# Altium schematic symbol library memory_flash_parallel.SchLib: 8 symbols
Pins are listed as number, name and electrical type; pins without a type are passive.

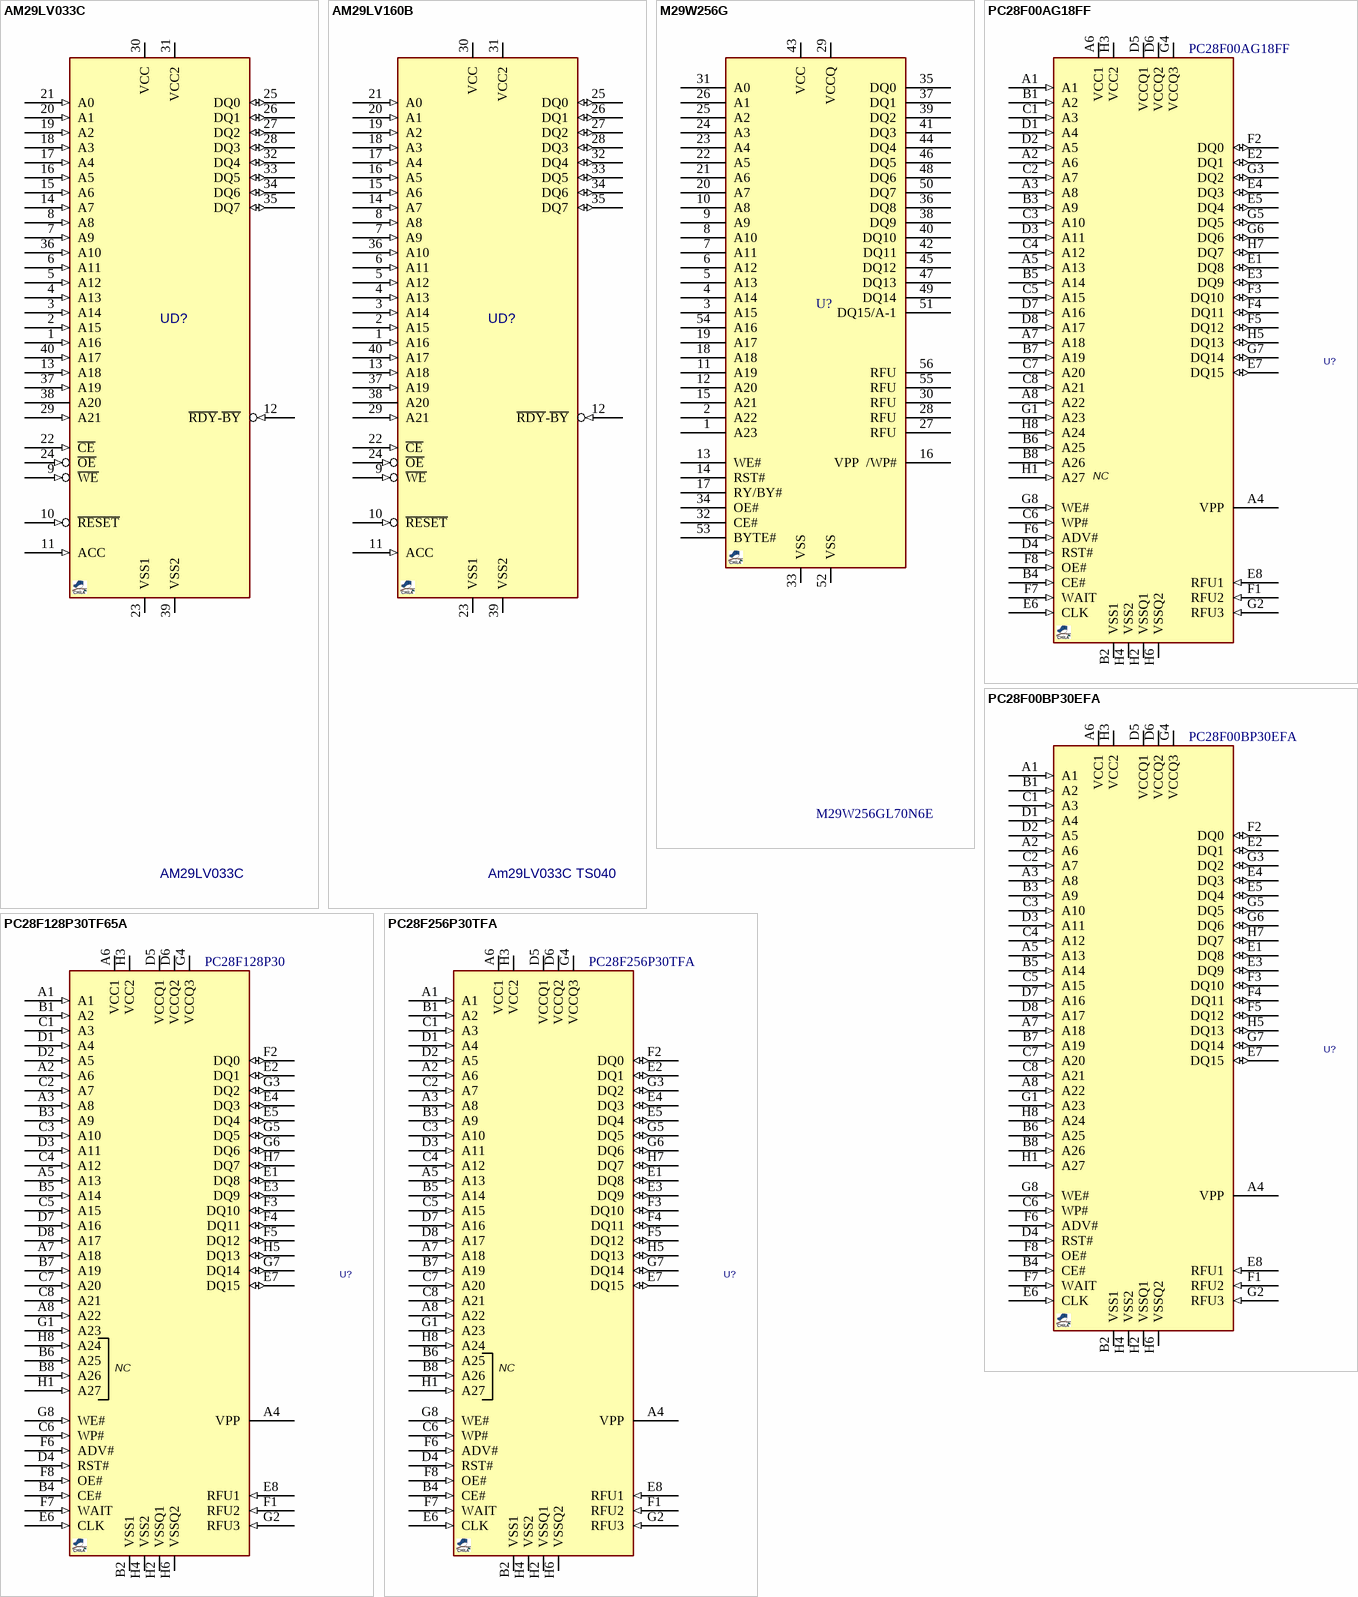
[diagram p0: symbols AM29LV033C to PC28F256P30TFA]

## AM29LV033C
designator UD?
FLASH MEMORY, 32Mb (4M x 8-Bit) CMOS 3.0 Volt-only Boot Sector; MANF: AMD; DESC: DESCRIPTION; ASSEMBLY: ASSEMBLY; PARAM: 32Mb (4M x 8-Bit); PRICE: PRICE; MANF_P#: AM29LV033C; VALUE: AM29LV033C
footprint SOG50_40 (TS040, TSOP40, TSSOP, 40-Leads, Body 10.00x18.40mm, Pitch 0.50mm)
pins: 1 A16 (in), 2 A15 (in), 3 A14 (in), 4 A13 (in), 5 A12 (in), 6 A11 (in), 7 A9 (in), 8 A8 (in), 9 ~{WE} (in), 10 ~{RESET} (in), 11 ACC (in), 12 ~{RDY}-~{BY} (in), 13 A18 (in), 14 A7 (in), 15 A6 (in), 16 A5 (in), 17 A4 (in), 18 A3 (in), 19 A2 (in), 20 A1 (in), 21 A0 (in), 22 ~{CE} (in), 23 VSS1, 24 ~{OE} (in), 25 DQ0 (io), 26 DQ1 (io), 27 DQ2 (io), 28 DQ3 (io), 29 A21 (in), 30 VCC, 31 VCC2, 32 DQ4 (io), 33 DQ5 (io), 34 DQ6 (io), 35 DQ7 (io), 36 A10 (in), 37 A19 (in), 38 A20, 39 VSS2, 40 A17 (in)

## AM29LV160B
designator UD?, comment Am29LV033C TS040
FLASH MEMORY, 16Mb (2M x8-Bit/ 1M x16-Bit), CMOS 3.0 Volt-only Boot Sector; MANF: AMD; DESC: DESCRIPTION; MANF_P#: AM29LV160B; ASSEMBLY: ASSEMBLY; PARAM: 16Mb (2M x8-Bit/ 1M x16-Bit); PRICE: PRICE; VALUE: Am29LV033C TS040
footprint SOG50_40 (TS040, TSOP40, TSSOP, 40-Leads, Body 10.00x18.40mm, Pitch 0.50mm)
pins: 1 A16 (in), 2 A15 (in), 3 A14 (in), 4 A13 (in), 5 A12 (in), 6 A11 (in), 7 A9 (in), 8 A8 (in), 9 ~{WE} (in), 10 ~{RESET} (in), 11 ACC (in), 12 ~{RDY}-~{BY} (in), 13 A18 (in), 14 A7 (in), 15 A6 (in), 16 A5 (in), 17 A4 (in), 18 A3 (in), 19 A2 (in), 20 A1 (in), 21 A0 (in), 22 ~{CE} (in), 23 VSS1, 24 ~{OE} (in), 25 DQ0 (io), 26 DQ1 (io), 27 DQ2 (io), 28 DQ3 (io), 29 A21 (in), 30 VCC, 31 VCC2, 32 DQ4 (io), 33 DQ5 (io), 34 DQ6 (io), 35 DQ7 (io), 36 A10 (in), 37 A19 (in), 38 A20, 39 VSS2, 40 A17 (in)

## M29W256G
designator U?, comment M29W256GL70N6E
FLASH MEMORY, NOR, 256Mb (32Mb x8 or 16Mb x16), 3V; MANF: MICRON; Value: M29W256G; MANF_P#: M29W256G; PARAM: 256Mb (32Mb x8 or 16Mb x16)
signal-integrity model Connector
footprint SOG50_56 (DGG TSSOP (TI), MO-153-EE (JEDEC), 56Lead, pitch: 0.5mm, 14x6.1x1.2mm)
pins: 1 A23, 2 A22, 3 A15, 4 A14, 5 A13, 6 A12, 7 A11, 8 A10, 9 A9, 10 A8, 11 A19, 12 A20, 13 WE#, 14 RST#, 15 A21, 16 VPP  /WP#, 17 RY/BY#, 18 A18, 19 A17, 20 A7, 21 A6, 22 A5, 23 A4, 24 A3, 25 A2, 26 A1, 27 RFU, 28 RFU, 29 VCCQ, 30 RFU, 31 A0, 32 CE#, 33 VSS, 34 OE#, 35 DQ0, 36 DQ8, 37 DQ1, 38 DQ9, 39 DQ2, 40 DQ10, 41 DQ3, 42 DQ11, 43 VCC, 44 DQ4, 45 DQ12, 46 DQ5, 47 DQ13, 48 DQ6, 49 DQ14, 50 DQ7, 51 DQ15/A-1, 52 VSS, 53 BYTE#, 54 A16, 55 RFU, 56 RFU

## PC28F00AG18FF
designator U?
Flash Memory, Parallel NOR FLASH, 1Gb (x16), 96ns, 1.7~2V, BGA-64; MANF: MICRON/Numonyx; MANF_P#: PC28F00AG18FF; VALUE: PC28F00AG18FF
footprint BGA100_64_10X8 (BGA 64-Ball, 1mm pitch, 8x10x1.2 mm)
pins: A1 (in), A2 A6 (in), A3 A8 (in), A4 VPP, A5 A13 (in), A6 VCC1, A7 A18 (in), A8 A22 (in), B1 A2 (in), B2 VSS1, B3 A9 (in), B4 CE# (in), B5 A14 (in), B6 A25 (in), B7 A19 (in), B8 A26 (in), C1 A3 (in), C2 A7 (in), C3 A10 (in), C4 A12 (in), C5 A15 (in), C6 WP# (in), C7 A20 (in), C8 A21 (in), D1 A4 (in), D2 A5 (in), D3 A11 (in), D4 RST# (in), D5 VCCQ1, D6 VCCQ2, D7 A16 (in), D8 A17 (in), E1 DQ8 (io), E2 DQ1 (io), E3 DQ9 (io), E4 DQ3 (io), E5 DQ4 (io), E6 CLK (in), E7 DQ15 (io), E8 RFU1 (in), F1 RFU2 (in), F2 DQ0 (io), F3 DQ10 (io), F4 DQ11 (io), F5 DQ12 (io), F6 ADV# (in), F7 WAIT (in), F8 OE# (in), G1 A23 (in), G2 RFU3 (in), G3 DQ2 (io), G4 VCCQ3, G5 DQ5 (io), G6 DQ6 (io), G7 DQ14 (io), G8 WE# (in), H1 A27 (in), H2 VSSQ1, H3 VCC2, H4 VSS2, H5 DQ13 (io), H6 VSSQ2, H7 DQ7 (io), H8 A24 (in)
text: NC

## PC28F00BP30EFA
designator U?
Flash Memory, Parallel NOR FLASH, 2Gb (x16), 105ns, 1.7~3.6V, BGA-64; MANF: MICRON/Numonyx; MANF_P#: PC28F00BP30EFA; VALUE: PC28F00BP30EFA
footprint BGA100_64_10X8 (BGA 64-Ball, 1mm pitch, 8x10x1.2 mm)
pins: A1 (in), A2 A6 (in), A3 A8 (in), A4 VPP, A5 A13 (in), A6 VCC1, A7 A18 (in), A8 A22 (in), B1 A2 (in), B2 VSS1, B3 A9 (in), B4 CE# (in), B5 A14 (in), B6 A25 (in), B7 A19 (in), B8 A26 (in), C1 A3 (in), C2 A7 (in), C3 A10 (in), C4 A12 (in), C5 A15 (in), C6 WP# (in), C7 A20 (in), C8 A21 (in), D1 A4 (in), D2 A5 (in), D3 A11 (in), D4 RST# (in), D5 VCCQ1, D6 VCCQ2, D7 A16 (in), D8 A17 (in), E1 DQ8 (io), E2 DQ1 (io), E3 DQ9 (io), E4 DQ3 (io), E5 DQ4 (io), E6 CLK (in), E7 DQ15 (io), E8 RFU1 (in), F1 RFU2 (in), F2 DQ0 (io), F3 DQ10 (io), F4 DQ11 (io), F5 DQ12 (io), F6 ADV# (in), F7 WAIT (in), F8 OE# (in), G1 A23 (in), G2 RFU3 (in), G3 DQ2 (io), G4 VCCQ3, G5 DQ5 (io), G6 DQ6 (io), G7 DQ14 (io), G8 WE# (in), H1 A27 (in), H2 VSSQ1, H3 VCC2, H4 VSS2, H5 DQ13 (io), H6 VSSQ2, H7 DQ7 (io), H8 A24 (in)

## PC28F128P30TF65A
designator U?, comment PC28F128P30
Flash Memory, Parallel NOR FLASH, 128Mb (x16), 65ns, 1.7~2V, BGA-64; MANF_P#: PC28F128P30TF65A; MANF: MICRON/Numonyx; VALUE: PC28F128P30
footprint BGA100_64_10X8 (BGA 64-Ball, 1mm pitch, 8x10x1.2 mm)
pins: A1 (in), A2 A6 (in), A3 A8 (in), A4 VPP, A5 A13 (in), A6 VCC1, A7 A18 (in), A8 A22 (in), B1 A2 (in), B2 VSS1, B3 A9 (in), B4 CE# (in), B5 A14 (in), B6 A25 (in), B7 A19 (in), B8 A26 (in), C1 A3 (in), C2 A7 (in), C3 A10 (in), C4 A12 (in), C5 A15 (in), C6 WP# (in), C7 A20 (in), C8 A21 (in), D1 A4 (in), D2 A5 (in), D3 A11 (in), D4 RST# (in), D5 VCCQ1, D6 VCCQ2, D7 A16 (in), D8 A17 (in), E1 DQ8 (io), E2 DQ1 (io), E3 DQ9 (io), E4 DQ3 (io), E5 DQ4 (io), E6 CLK (in), E7 DQ15 (io), E8 RFU1 (in), F1 RFU2 (in), F2 DQ0 (io), F3 DQ10 (io), F4 DQ11 (io), F5 DQ12 (io), F6 ADV# (in), F7 WAIT (in), F8 OE# (in), G1 A23 (in), G2 RFU3 (in), G3 DQ2 (io), G4 VCCQ3, G5 DQ5 (io), G6 DQ6 (io), G7 DQ14 (io), G8 WE# (in), H1 A27 (in), H2 VSSQ1, H3 VCC2, H4 VSS2, H5 DQ13 (io), H6 VSSQ2, H7 DQ7 (io), H8 A24 (in)
text: NC

## PC28F256P30TFA
designator U?
Flash Memory, Parallel NOR FLASH, 256Mb (x16), 100ns, 1.7~2V, BGA-64; MANF: MICRON/Numonyx; MANF_P#: PC28F256P30TFA; VALUE: PC28F256P30TFA
footprint BGA100_64_10X8 (BGA 64-Ball, 1mm pitch, 8x10x1.2 mm)
pins: A1 (in), A2 A6 (in), A3 A8 (in), A4 VPP, A5 A13 (in), A6 VCC1, A7 A18 (in), A8 A22 (in), B1 A2 (in), B2 VSS1, B3 A9 (in), B4 CE# (in), B5 A14 (in), B6 A25 (in), B7 A19 (in), B8 A26 (in), C1 A3 (in), C2 A7 (in), C3 A10 (in), C4 A12 (in), C5 A15 (in), C6 WP# (in), C7 A20 (in), C8 A21 (in), D1 A4 (in), D2 A5 (in), D3 A11 (in), D4 RST# (in), D5 VCCQ1, D6 VCCQ2, D7 A16 (in), D8 A17 (in), E1 DQ8 (io), E2 DQ1 (io), E3 DQ9 (io), E4 DQ3 (io), E5 DQ4 (io), E6 CLK (in), E7 DQ15 (io), E8 RFU1 (in), F1 RFU2 (in), F2 DQ0 (io), F3 DQ10 (io), F4 DQ11 (io), F5 DQ12 (io), F6 ADV# (in), F7 WAIT (in), F8 OE# (in), G1 A23 (in), G2 RFU3 (in), G3 DQ2 (io), G4 VCCQ3, G5 DQ5 (io), G6 DQ6 (io), G7 DQ14 (io), G8 WE# (in), H1 A27 (in), H2 VSSQ1, H3 VCC2, H4 VSS2, H5 DQ13 (io), H6 VSSQ2, H7 DQ7 (io), H8 A24 (in)
text: NC

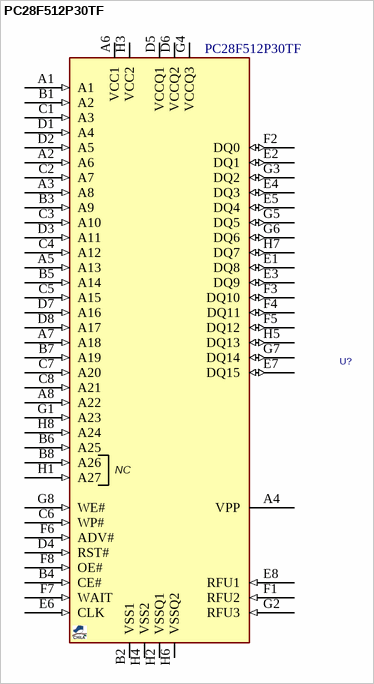
[diagram p1: symbol PC28F512P30TF]

## PC28F512P30TF
designator U?
Flash Memory, Parallel NOR FLASH, 512Mb (x16), 100ns, 1.7~2V, BGA-64; MANF_P#: PC28F512P30TFA, PC28F512P30TFB; MANF: MICRON/Numonyx; VALUE: PC28F512P30TF
footprint BGA100_64_10X8 (BGA 64-Ball, 1mm pitch, 8x10x1.2 mm)
pins: A1 (in), A2 A6 (in), A3 A8 (in), A4 VPP, A5 A13 (in), A6 VCC1, A7 A18 (in), A8 A22 (in), B1 A2 (in), B2 VSS1, B3 A9 (in), B4 CE# (in), B5 A14 (in), B6 A25 (in), B7 A19 (in), B8 A26 (in), C1 A3 (in), C2 A7 (in), C3 A10 (in), C4 A12 (in), C5 A15 (in), C6 WP# (in), C7 A20 (in), C8 A21 (in), D1 A4 (in), D2 A5 (in), D3 A11 (in), D4 RST# (in), D5 VCCQ1, D6 VCCQ2, D7 A16 (in), D8 A17 (in), E1 DQ8 (io), E2 DQ1 (io), E3 DQ9 (io), E4 DQ3 (io), E5 DQ4 (io), E6 CLK (in), E7 DQ15 (io), E8 RFU1 (in), F1 RFU2 (in), F2 DQ0 (io), F3 DQ10 (io), F4 DQ11 (io), F5 DQ12 (io), F6 ADV# (in), F7 WAIT (in), F8 OE# (in), G1 A23 (in), G2 RFU3 (in), G3 DQ2 (io), G4 VCCQ3, G5 DQ5 (io), G6 DQ6 (io), G7 DQ14 (io), G8 WE# (in), H1 A27 (in), H2 VSSQ1, H3 VCC2, H4 VSS2, H5 DQ13 (io), H6 VSSQ2, H7 DQ7 (io), H8 A24 (in)
text: NC